# EAGLE library part ADXL375 (library CalvEngIO-Sensors)
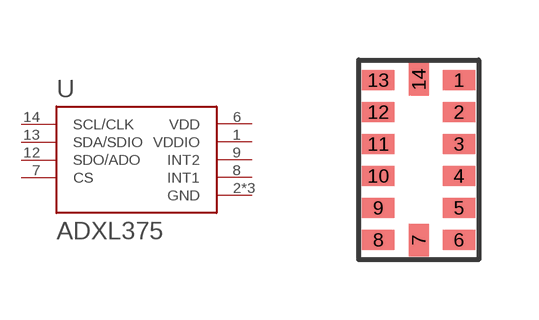
[diagram p7: symbol with the pads of 14-LGA.2; footprint 14-LGA.2]

Designator prefix -

## ADXL375  [14-LGA.2]
1  VDDIO
2  GND
4  GND
5  GND
6  VDD
7  CS
8  INT1
9  INT2
12  SDO/ADO
13  SDA/SDIO
14  SCL/CLK

## Footprint 14-LGA.2 (pad centres in mm)
smd 0.813 x 0.5: 1 1.01,2; 2 1.01,1.2; 3 1.01,0.4; 4 1.01,-0.4; 5 1.01,-1.2; 6 1.01,-2; 8 -1.01,-2; 9 -1.01,-1.2; 10 -1.01,-0.4; 11 -1.01,0.4; 12 -1.01,1.2; 13 -1.01,2
smd 0.5 x 0.813: 7 0,-2.01; 14 0,2.01